# Altium schematic symbol library NSC Audio.SchLib: 691 symbols (part 12 of 18)
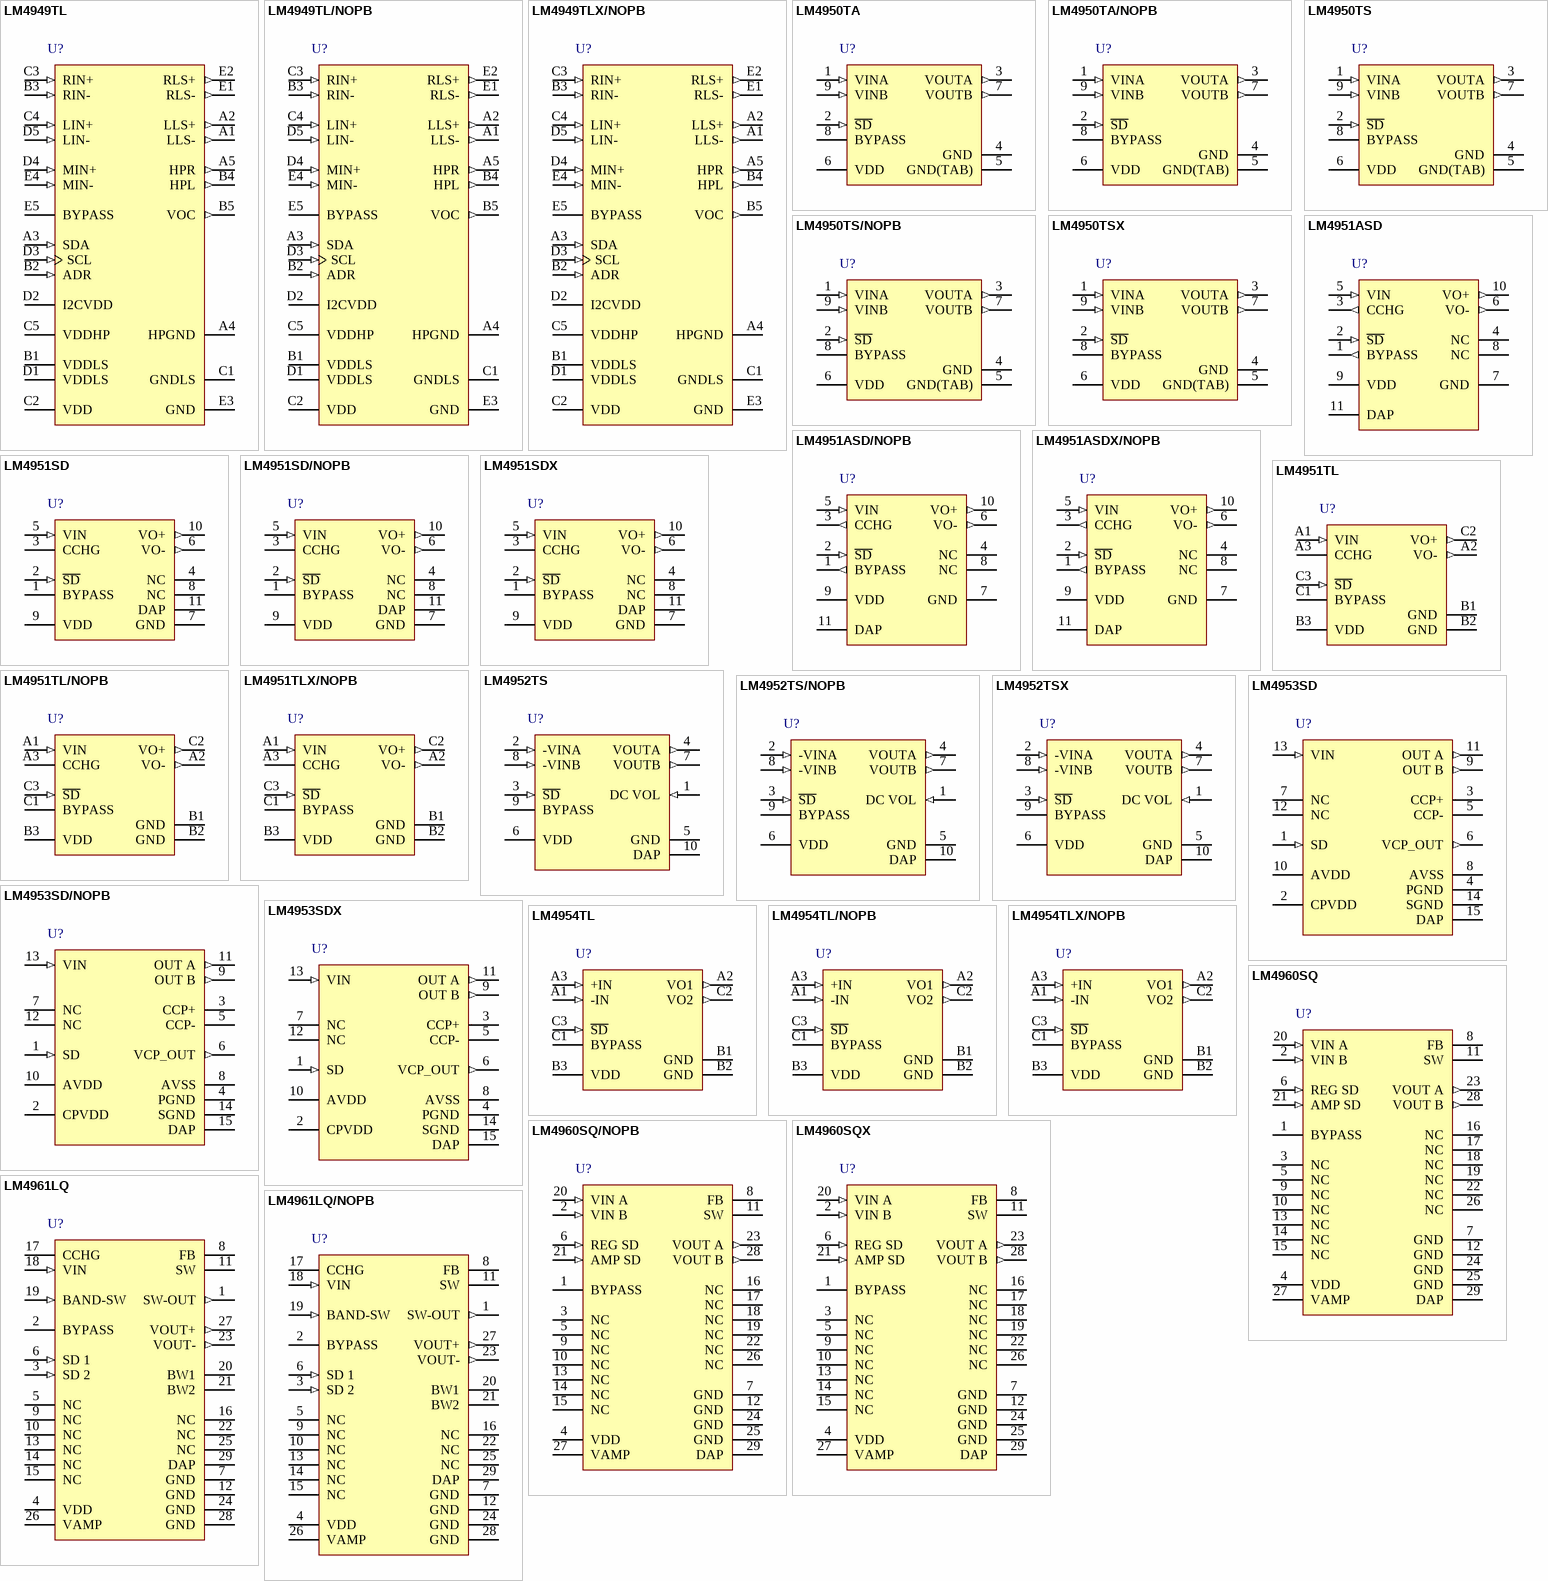
[diagram p38: symbols LM4949TL to LM4961LQ/NOPB]

## LM4952TSX
designator U?
3.1W Stereo-SE Audio Power Amplifier with DC Volume Control, 9-pin TO-263; PartNumber: LM4952TSX; Manufacturer: National Semiconductor; PackageTopMarking: NSUZXYTTE#*LM4952TS; PowerWise: N; CompType: Audio IC; Published: 1-Mar-2010; DatasheetVersion: Aug-2004; PackageVersion: revB, Dec-2004; PackageReference: TS9A; Publisher: Altium Limited; PackageDescription: TO-263, Molded, 9 Lead, Surface Mount; RoHS: N; PinCount: 9; ComponentLink1Description: LM4952 Datasheet; ComponentLink1URL: http://www.national.com/ds/LM/LM4952.pdf; ComponentLink2Description: LM4952 Web Page; ComponentLink2URL: http://www.national.com/pf/LM/LM4952.html; ComponentLink3Description: TS9A Package Page; ComponentLink3URL: http://www.national.com/packaging/folders/ts9a.html
footprint TS9A_N (D2-PAK, 10-Leads, Body 8.7x10.2mm, Pitch 0.97mm, Lead Span 14.1mm, IPC Medium Density)
footprint TS9A_L (D2-PAK, 10-Leads, Body 8.7x10.2mm, Pitch 0.97mm, Lead Span 14.1mm, IPC High Density)
footprint TS9A_M (D2-PAK, 10-Leads, Body 8.7x10.2mm, Pitch 0.97mm, Lead Span 14.1mm, IPC Low Density)
pins: 1 DC VOL (in), 2 -VINA (in), 3 ~{SD} (in), 4 VOUTA (out), 5 GND (power), 6 VDD (power), 7 VOUTB (out), 8 -VINB (in), 9 BYPASS, 10 DAP (power)

## LM4953SD
designator U?
Ground-Referenced, Ultra Low Noise, Ceramic Speaker Driver, 15-pin LLP; PartNumber: LM4953SD; Manufacturer: National Semiconductor; PowerWise: N; CompType: Audio IC; Published: 4-Dec-2008; DatasheetVersion: Feb-2006; PackageVersion: revA, Jun-2003; PackageReference: SDA14A; Publisher: Altium Limited; PackageDescription: LLP, Plastic, Dual, 4 x 3 x 0.8mm Body, 14 Lead, 0.5mm Pitch, No Pullback; Supplier 1: Farnell; Supplier Part Number 1: 1798330; RoHS: N; PinCount: 14; ComponentLink1Description: LM4953 Datasheet; ComponentLink1URL: http://www.national.com/ds/LM/LM4953.pdf; ComponentLink2Description: LM4953 Web Page; ComponentLink2URL: http://www.national.com/pf/LM/LM4953.html; ComponentLink3Description: SDA14A Package Page; ComponentLink3URL: http://www.national.com/packaging/folders/sda14a.html
footprint SDA14A (SON, 14-Leads, Body 4x3mm, Pitch 0.5mm, NSC Recommended)
pins: 1 SD (in), 2 CPVDD (power), 3 CCP+, 4 PGND (power), 5 CCP-, 6 VCP_OUT (out), 7 NC, 8 AVSS (power), 9 OUT B (out), 10 AVDD (power), 11 OUT A (out), 12 NC, 13 VIN (in), 14 SGND (power), 15 DAP (power)

## LM4953SD/NOPB
designator U?
Ground-Referenced, Ultra Low Noise, Ceramic Speaker Driver, 14-pin LLP, Pb-Free; PartNumber: LM4953SD/NOPB; Manufacturer: National Semiconductor; PowerWise: N; CompType: Audio IC; Published: 1-Mar-2010; DatasheetVersion: Feb-2006; PackageVersion: revA, Jun-2003; PackageReference: SDA14A; Publisher: Altium Limited; PackageDescription: LLP, Plastic, Dual, 4 x 3 x 0.8mm Body, 14 Lead, 0.5mm Pitch, No Pullback; Supplier 1: Digi-Key; Supplier Part Number 1: LM4953SD-ND; RoHS: Y; PinCount: 14; ComponentLink1Description: LM4953 Datasheet; ComponentLink1URL: http://www.national.com/ds/LM/LM4953.pdf; ComponentLink2Description: LM4953 Web Page; ComponentLink2URL: http://www.national.com/pf/LM/LM4953.html; ComponentLink3Description: SDA14A Package Page; ComponentLink3URL: http://www.national.com/packaging/folders/sda14a.html
footprint SDA14A (SON, 14-Leads, Body 4x3mm, Pitch 0.5mm, NSC Recommended)
pins: 1 SD (in), 2 CPVDD (power), 3 CCP+, 4 PGND (power), 5 CCP-, 6 VCP_OUT (out), 7 NC, 8 AVSS (power), 9 OUT B (out), 10 AVDD (power), 11 OUT A (out), 12 NC, 13 VIN (in), 14 SGND (power), 15 DAP (power)

## LM4953SDX
designator U?
Ground-Referenced, Ultra Low Noise, Ceramic Speaker Driver, 14-pin LLP; PartNumber: LM4953SDX; Manufacturer: National Semiconductor; PowerWise: N; CompType: Audio IC; Published: 1-Mar-2010; DatasheetVersion: Feb-2006; PackageVersion: revA, Jun-2003; PackageReference: SDA14A; Publisher: Altium Limited; PackageDescription: LLP, Plastic, Dual, 4 x 3 x 0.8mm Body, 14 Lead, 0.5mm Pitch, No Pullback; RoHS: N; PinCount: 14; ComponentLink1Description: LM4953 Datasheet; ComponentLink1URL: http://www.national.com/ds/LM/LM4953.pdf; ComponentLink2Description: LM4953 Web Page; ComponentLink2URL: http://www.national.com/pf/LM/LM4953.html; ComponentLink3Description: SDA14A Package Page; ComponentLink3URL: http://www.national.com/packaging/folders/sda14a.html
footprint SDA14A (SON, 14-Leads, Body 4x3mm, Pitch 0.5mm, NSC Recommended)
pins: 1 SD (in), 2 CPVDD (power), 3 CCP+, 4 PGND (power), 5 CCP-, 6 VCP_OUT (out), 7 NC, 8 AVSS (power), 9 OUT B (out), 10 AVDD (power), 11 OUT A (out), 12 NC, 13 VIN (in), 14 SGND (power), 15 DAP (power)

## LM4954TL
designator U?
High Voltage 3 Watt Audio Power Amplifier, 9-pin Micro SMD; PartNumber: LM4954TL; Manufacturer: National Semiconductor; PackageTopMarking: XVG*I F2; PowerWise: N; CompType: Audio IC; Published: 4-Dec-2008; DatasheetVersion: Jun-2005; PackageVersion: revC, Jan-2004; PackageReference: TLA0911A; Publisher: Altium Limited; PackageDescription: Thin Micro SMD, 9 Bump (Large), 0.5mm Pitch; RoHS: Y; PinCount: 9; Code_JEDEC: MO-211-DD; ComponentLink1Description: LM4954 Datasheet; ComponentLink1URL: http://www.national.com/ds/LM/LM4954.pdf; ComponentLink2Description: LM4954 Web Page; ComponentLink2URL: http://www.national.com/pf/LM/LM4954.html; ComponentLink3Description: TLA0911A Package Page; ComponentLink3URL: http://www.national.com/packaging/folders/tla0911a.html
footprint TLA0911A (Micro SMD, 9-Leads, Body 1.49x1.49mm, Pitch 0.5mm, NSC Recommended)
pins: A1 -IN (in), A2 VO1 (out), A3 +IN (in), B1 GND (power), B2 GND (power), B3 VDD (power), C1 BYPASS, C2 VO2 (out), C3 ~{SD} (in)

## LM4954TL/NOPB
designator U?
High Voltage 3 Watt Audio Power Amplifier, 9-pin Micro SMD, Pb-Free; PartNumber: LM4954TL/NOPB; Manufacturer: National Semiconductor; PackageTopMarking: XVG*I F2; PowerWise: N; CompType: Audio IC; Published: 1-Mar-2010; DatasheetVersion: Jun-2005; PackageVersion: revC, Jan-2004; PackageReference: TLA0911A; Publisher: Altium Limited; PackageDescription: Thin Micro SMD, 9 Bump (Large), 0.5mm Pitch; Supplier 1: Digi-Key; Supplier Part Number 1: LM4954TLTR-ND; Supplier 2: Digi-Key; Supplier Part Number 2: LM4954TLCT-ND; Supplier 3: Digi-Key; Supplier Part Number 3: LM4954TLDKR-ND; RoHS: Y; PinCount: 9; Code_JEDEC: MO-211-DD; ComponentLink1Description: LM4954 Datasheet; ComponentLink1URL: http://www.national.com/ds/LM/LM4954.pdf; ComponentLink2Description: LM4954 Web Page; ComponentLink2URL: http://www.national.com/pf/LM/LM4954.html; ComponentLink3Description: TLA0911A Package Page; ComponentLink3URL: http://www.national.com/packaging/folders/tla0911a.html
footprint TLA0911A (Micro SMD, 9-Leads, Body 1.49x1.49mm, Pitch 0.5mm, NSC Recommended)
pins: A1 -IN (in), A2 VO1 (out), A3 +IN (in), B1 GND (power), B2 GND (power), B3 VDD (power), C1 BYPASS, C2 VO2 (out), C3 ~{SD} (in)

## LM4954TLX/NOPB
designator U?
High Voltage 3 Watt Audio Power Amplifier, 9-pin Micro SMD, Pb-Free; PartNumber: LM4954TLX/NOPB; Manufacturer: National Semiconductor; PackageTopMarking: XVG*I F2; PowerWise: N; CompType: Audio IC; Published: 1-Mar-2010; DatasheetVersion: Jun-2005; PackageVersion: revC, Jan-2004; PackageReference: TLA0911A; Publisher: Altium Limited; PackageDescription: Thin Micro SMD, 9 Bump (Large), 0.5mm Pitch; Supplier 1: Digi-Key; Supplier Part Number 1: LM4954TLX-ND; RoHS: Y; PinCount: 9; Code_JEDEC: MO-211-DD; ComponentLink1Description: LM4954 Datasheet; ComponentLink1URL: http://www.national.com/ds/LM/LM4954.pdf; ComponentLink2Description: LM4954 Web Page; ComponentLink2URL: http://www.national.com/pf/LM/LM4954.html; ComponentLink3Description: TLA0911A Package Page; ComponentLink3URL: http://www.national.com/packaging/folders/tla0911a.html
footprint TLA0911A (Micro SMD, 9-Leads, Body 1.49x1.49mm, Pitch 0.5mm, NSC Recommended)
pins: A1 -IN (in), A2 VO1 (out), A3 +IN (in), B1 GND (power), B2 GND (power), B3 VDD (power), C1 BYPASS, C2 VO2 (out), C3 ~{SD} (in)

## LM4960SQ
designator U?
Piezoelectric Speaker Driver, 28-pin LLP; PartNumber: LM4960SQ; Manufacturer: National Semiconductor; PackageTopMarking: NS*UZXYTT*L4960SQ; PowerWise: N; CompType: Audio IC; Published: 4-Dec-2008; DatasheetVersion: Apr-2005; PackageVersion: revB, Aug-2003; PackageReference: SQA28A; Publisher: Altium Limited; PackageDescription: LLP, Plastic, Quad, 5 x 5 x 0.8mm Body, 28 Lead, 0.5mm Pitch, No Pullback; Supplier 1: Farnell; Supplier Part Number 1: 1312787; RoHS: N; PinCount: 28; Code_JEDEC: MO-220-WHHD-3; ComponentLink1Description: LM4960 Datasheet; ComponentLink1URL: http://www.national.com/ds/LM/LM4960.pdf; ComponentLink2Description: LM4960 Web Page; ComponentLink2URL: http://www.national.com/pf/LM/LM4960.html; ComponentLink3Description: SQA28A Package Page; ComponentLink3URL: http://www.national.com/packaging/folders/sqa28a.html
footprint SQA28A (QFN, 28-Leads, Body 5x5mm, Pitch 0.5mm, NSC Recommended)
pins: 1 BYPASS, 2 VIN B (in), 3 NC, 4 VDD (power), 5 NC, 6 REG SD (in), 7 GND (power), 8 FB, 9 NC, 10 NC, 11 SW, 12 GND (power), 13 NC, 14 NC, 15 NC, 16 NC, 17 NC, 18 NC, 19 NC, 20 VIN A (in), 21 AMP SD (in), 22 NC, 23 VOUT A (out), 24 GND (power), 25 GND (power), 26 NC, 27 VAMP (power), 28 VOUT B (out), 29 DAP (power)

## LM4960SQ/NOPB
designator U?
Piezoelectric Speaker Driver, 28-pin LLP, Pb-Free; PartNumber: LM4960SQ/NOPB; Manufacturer: National Semiconductor; PackageTopMarking: NS*UZXYTT*L4960SQ; PowerWise: N; CompType: Audio IC; Published: 1-Mar-2010; DatasheetVersion: Apr-2005; PackageVersion: revB, Aug-2003; PackageReference: SQA28A; Publisher: Altium Limited; PackageDescription: LLP, Plastic, Quad, 5 x 5 x 0.8mm Body, 28 Lead, 0.5mm Pitch, No Pullback; Supplier 1: Digi-Key; Supplier Part Number 1: LM4960SQTR-ND; Supplier 2: Digi-Key; Supplier Part Number 2: LM4960SQCT-ND; Supplier 3: Digi-Key; Supplier Part Number 3: LM4960SQDKR-ND; RoHS: Y; PinCount: 28; Code_JEDEC: MO-220-WHHD-3; ComponentLink1Description: LM4960 Datasheet; ComponentLink1URL: http://www.national.com/ds/LM/LM4960.pdf; ComponentLink2Description: LM4960 Web Page; ComponentLink2URL: http://www.national.com/pf/LM/LM4960.html; ComponentLink3Description: SQA28A Package Page; ComponentLink3URL: http://www.national.com/packaging/folders/sqa28a.html
footprint SQA28A (QFN, 28-Leads, Body 5x5mm, Pitch 0.5mm, NSC Recommended)
pins: 1 BYPASS, 2 VIN B (in), 3 NC, 4 VDD (power), 5 NC, 6 REG SD (in), 7 GND (power), 8 FB, 9 NC, 10 NC, 11 SW, 12 GND (power), 13 NC, 14 NC, 15 NC, 16 NC, 17 NC, 18 NC, 19 NC, 20 VIN A (in), 21 AMP SD (in), 22 NC, 23 VOUT A (out), 24 GND (power), 25 GND (power), 26 NC, 27 VAMP (power), 28 VOUT B (out), 29 DAP (power)

## LM4960SQX
designator U?
Piezoelectric Speaker Driver, 28-pin LLP; PartNumber: LM4960SQX; Manufacturer: National Semiconductor; PackageTopMarking: NS*UZXYTT*L4960SQ; PowerWise: N; CompType: Audio IC; Published: 1-Mar-2010; DatasheetVersion: Apr-2005; PackageVersion: revB, Aug-2003; PackageReference: SQA28A; Publisher: Altium Limited; PackageDescription: LLP, Plastic, Quad, 5 x 5 x 0.8mm Body, 28 Lead, 0.5mm Pitch, No Pullback; RoHS: N; PinCount: 28; Code_JEDEC: MO-220-WHHD-3; ComponentLink1Description: LM4960 Datasheet; ComponentLink1URL: http://www.national.com/ds/LM/LM4960.pdf; ComponentLink2Description: LM4960 Web Page; ComponentLink2URL: http://www.national.com/pf/LM/LM4960.html; ComponentLink3Description: SQA28A Package Page; ComponentLink3URL: http://www.national.com/packaging/folders/sqa28a.html
footprint SQA28A (QFN, 28-Leads, Body 5x5mm, Pitch 0.5mm, NSC Recommended)
pins: 1 BYPASS, 2 VIN B (in), 3 NC, 4 VDD (power), 5 NC, 6 REG SD (in), 7 GND (power), 8 FB, 9 NC, 10 NC, 11 SW, 12 GND (power), 13 NC, 14 NC, 15 NC, 16 NC, 17 NC, 18 NC, 19 NC, 20 VIN A (in), 21 AMP SD (in), 22 NC, 23 VOUT A (out), 24 GND (power), 25 GND (power), 26 NC, 27 VAMP (power), 28 VOUT B (out), 29 DAP (power)

## LM4961LQ
designator U?
Ceramic Speaker Driver, 29-pin LLP; PartNumber: LM4961LQ; Manufacturer: National Semiconductor; PackageTopMarking: NS*UZXYTT*L4961LQ; PowerWise: N; CompType: Audio IC; Published: 4-Dec-2008; DatasheetVersion: Dec-2006; PackageVersion: revB, Jul-2001; PackageReference: LQA28A; Publisher: Altium Limited; PackageDescription: LLP, Plastic, Quad, 5 x 5 x 0.75mm Body, 28 Lead, 0.5mm Pitch; Supplier 1: Farnell; Supplier Part Number 1: 1312788; RoHS: N; PinCount: 28; Code_JEDEC: MO-220-WHHD-1; ComponentLink1Description: LM4961 Datasheet; ComponentLink1URL: http://www.national.com/ds/LM/LM4961.pdf; ComponentLink2Description: LM4961 Web Page; ComponentLink2URL: http://www.national.com/pf/LM/LM4961.html; ComponentLink3Description: LQA28A Package Page; ComponentLink3URL: http://www.national.com/packaging/folders/lqa28a.html
footprint LQA28A (PQFN, 28-Leads, Body 5x5mm, Pitch 0.5mm, NSC Recommended)
pins: 1 SW-OUT (out), 2 BYPASS, 3 SD 2 (in), 4 VDD (power), 5 NC, 6 SD 1 (in), 7 GND (power), 8 FB, 9 NC, 10 NC, 11 SW, 12 GND (power), 13 NC, 14 NC, 15 NC, 16 NC, 17 CCHG, 18 VIN (in), 19 BAND-SW (in), 20 BW1, 21 BW2, 22 NC, 23 VOUT- (out), 24 GND (power), 25 NC, 26 VAMP (power), 27 VOUT+ (out), 28 GND (power), 29 DAP (power)

## LM4961LQ/NOPB
designator U?
Ceramic Speaker Driver, 28-pin LLP, Pb-Free; PartNumber: LM4961LQ/NOPB; Manufacturer: National Semiconductor; PackageTopMarking: NS*UZXYTT*L4961LQ; PowerWise: N; CompType: Audio IC; Published: 1-Mar-2010; DatasheetVersion: Dec-2006; PackageVersion: revB, Jul-2001; PackageReference: LQA28A; Publisher: Altium Limited; PackageDescription: LLP, Plastic, Quad, 5 x 5 x 0.75mm Body, 28 Lead, 0.5mm Pitch; Supplier 1: Digi-Key; Supplier Part Number 1: LM4961LQTR-ND; Supplier 2: Digi-Key; Supplier Part Number 2: LM4961LQCT-ND; Supplier 3: Digi-Key; Supplier Part Number 3: LM4961LQDKR-ND; RoHS: Y; PinCount: 28; Code_JEDEC: MO-220-WHHD-1; ComponentLink1Description: LM4961 Datasheet; ComponentLink1URL: http://www.national.com/ds/LM/LM4961.pdf; ComponentLink2Description: LM4961 Web Page; ComponentLink2URL: http://www.national.com/pf/LM/LM4961.html; ComponentLink3Description: LQA28A Package Page; ComponentLink3URL: http://www.national.com/packaging/folders/lqa28a.html
footprint LQA28A (PQFN, 28-Leads, Body 5x5mm, Pitch 0.5mm, NSC Recommended)
pins: 1 SW-OUT (out), 2 BYPASS, 3 SD 2 (in), 4 VDD (power), 5 NC, 6 SD 1 (in), 7 GND (power), 8 FB, 9 NC, 10 NC, 11 SW, 12 GND (power), 13 NC, 14 NC, 15 NC, 16 NC, 17 CCHG, 18 VIN (in), 19 BAND-SW (in), 20 BW1, 21 BW2, 22 NC, 23 VOUT- (out), 24 GND (power), 25 NC, 26 VAMP (power), 27 VOUT+ (out), 28 GND (power), 29 DAP (power)

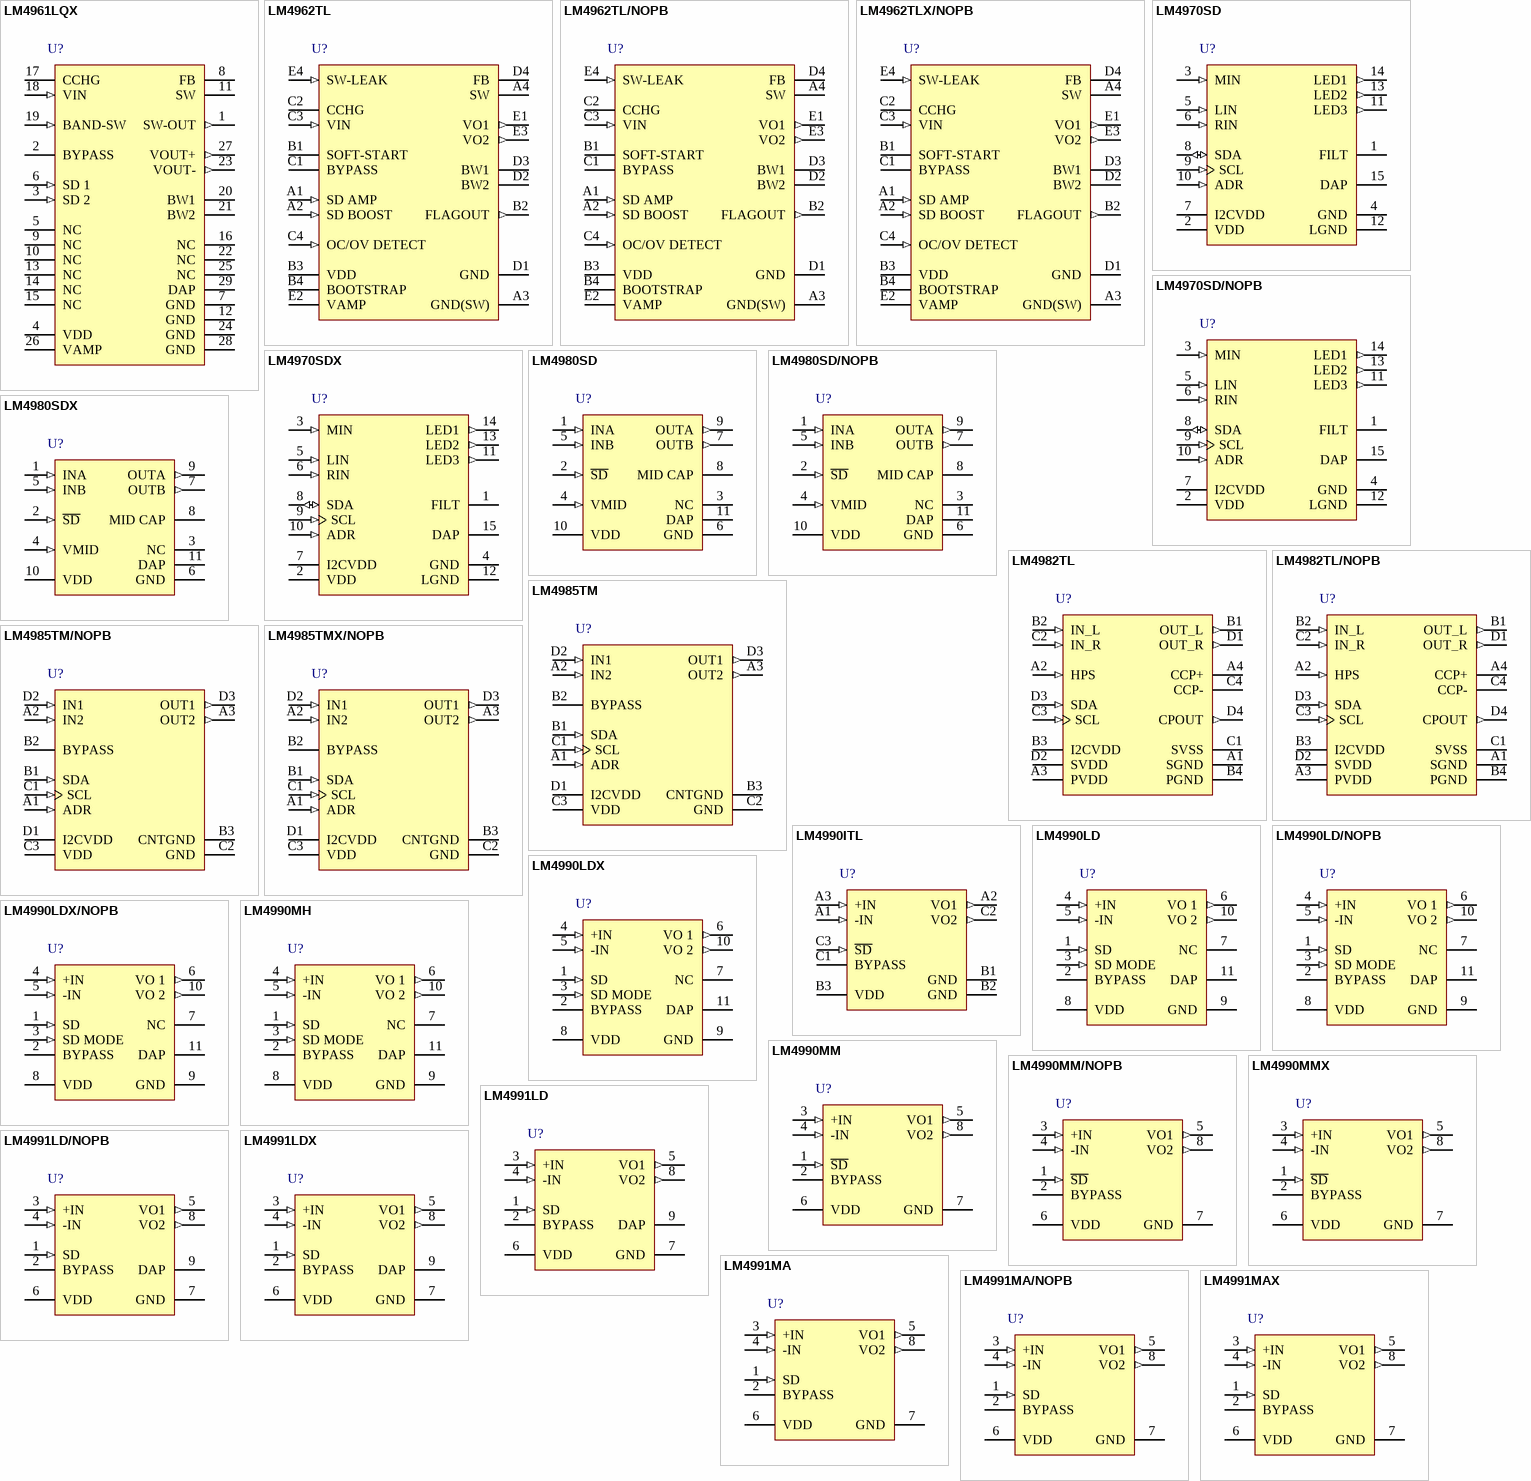
[diagram p17: symbols LM4961LQX to LM4991MAX]

## LM4961LQX
designator U?
Ceramic Speaker Driver, 28-pin LLP; PartNumber: LM4961LQX; Manufacturer: National Semiconductor; PackageTopMarking: NS*UZXYTT*L4961LQ; PowerWise: N; CompType: Audio IC; Published: 1-Mar-2010; DatasheetVersion: Dec-2006; PackageVersion: revB, Jul-2001; PackageReference: LQA28A; Publisher: Altium Limited; PackageDescription: LLP, Plastic, Quad, 5 x 5 x 0.75mm Body, 28 Lead, 0.5mm Pitch; RoHS: N; PinCount: 28; Code_JEDEC: MO-220-WHHD-1; ComponentLink1Description: LM4961 Datasheet; ComponentLink1URL: http://www.national.com/ds/LM/LM4961.pdf; ComponentLink2Description: LM4961 Web Page; ComponentLink2URL: http://www.national.com/pf/LM/LM4961.html; ComponentLink3Description: LQA28A Package Page; ComponentLink3URL: http://www.national.com/packaging/folders/lqa28a.html
footprint LQA28A (PQFN, 28-Leads, Body 5x5mm, Pitch 0.5mm, NSC Recommended)
pins: 1 SW-OUT (out), 2 BYPASS, 3 SD 2 (in), 4 VDD (power), 5 NC, 6 SD 1 (in), 7 GND (power), 8 FB, 9 NC, 10 NC, 11 SW, 12 GND (power), 13 NC, 14 NC, 15 NC, 16 NC, 17 CCHG, 18 VIN (in), 19 BAND-SW (in), 20 BW1, 21 BW2, 22 NC, 23 VOUT- (out), 24 GND (power), 25 NC, 26 VAMP (power), 27 VOUT+ (out), 28 GND (power), 29 DAP (power)

## LM4962TL
designator U?
Ceramic Speaker Driver, 20-pin Micro SMD; PartNumber: LM4962TL; Manufacturer: National Semiconductor; PackageTopMarking: XYTT*I GF7; PowerWise: N; CompType: Audio IC; Published: 4-Dec-2008; DatasheetVersion: Mar-2006; PackageVersion: revC, Jan-2004; PackageReference: TLA2011A; Publisher: Altium Limited; PackageDescription: Thin Micro SMD, 20 Bump (Large), 0.5mm Pitch; RoHS: Y; PinCount: 20; Code_JEDEC: MO-211-DG; ComponentLink1Description: LM4962 Datasheet; ComponentLink1URL: http://www.national.com/ds/LM/LM4962.pdf; ComponentLink2Description: LM4962 Web Page; ComponentLink2URL: http://www.national.com/pf/LM/LM4962.html; ComponentLink3Description: TLA2011A Package Page; ComponentLink3URL: http://www.national.com/packaging/folders/tla2011a.html
footprint TLA2011A (Micro SMD, 20-Leads, Body 2.47x1.97mm, Pitch 0.5mm, NSC Recommended)
pins: A1 SD AMP (in), A2 SD BOOST (in), A3 GND(SW) (power), A4 SW, B1 SOFT-START, B2 FLAGOUT (out), B3 VDD (power), B4 BOOTSTRAP (power), C1 BYPASS, C2 CCHG, C3 VIN (in), C4 OC/OV DETECT (in), D1 GND (power), D2 BW2, D3 BW1, D4 FB, E1 VO1 (out), E2 VAMP (power), E3 VO2 (out), E4 SW-LEAK (in)

## LM4962TL/NOPB
designator U?
Ceramic Speaker Driver, 20-pin Micro SMD, Pb-Free; PartNumber: LM4962TL/NOPB; Manufacturer: National Semiconductor; PackageTopMarking: XYTT*I GF7; PowerWise: N; CompType: Audio IC; Published: 1-Mar-2010; DatasheetVersion: Mar-2006; PackageVersion: revC, Jan-2004; PackageReference: TLA2011A; Publisher: Altium Limited; PackageDescription: Thin Micro SMD, 20 Bump (Large), 0.5mm Pitch; Supplier 1: Digi-Key; Supplier Part Number 1: LM4962TLTR-ND; Supplier 2: Digi-Key; Supplier Part Number 2: LM4962TLCT-ND; Supplier 3: Digi-Key; Supplier Part Number 3: LM4962TLDKR-ND; RoHS: Y; PinCount: 20; Code_JEDEC: MO-211-DG; ComponentLink1Description: LM4962 Datasheet; ComponentLink1URL: http://www.national.com/ds/LM/LM4962.pdf; ComponentLink2Description: LM4962 Web Page; ComponentLink2URL: http://www.national.com/pf/LM/LM4962.html; ComponentLink3Description: TLA2011A Package Page; ComponentLink3URL: http://www.national.com/packaging/folders/tla2011a.html
footprint TLA2011A (Micro SMD, 20-Leads, Body 2.47x1.97mm, Pitch 0.5mm, NSC Recommended)
pins: A1 SD AMP (in), A2 SD BOOST (in), A3 GND(SW) (power), A4 SW, B1 SOFT-START, B2 FLAGOUT (out), B3 VDD (power), B4 BOOTSTRAP (power), C1 BYPASS, C2 CCHG, C3 VIN (in), C4 OC/OV DETECT (in), D1 GND (power), D2 BW2, D3 BW1, D4 FB, E1 VO1 (out), E2 VAMP (power), E3 VO2 (out), E4 SW-LEAK (in)

## LM4962TLX/NOPB
designator U?
Ceramic Speaker Driver, 20-pin Micro SMD, Pb-Free; PartNumber: LM4962TLX/NOPB; Manufacturer: National Semiconductor; PackageTopMarking: XYTT*I GF7; PowerWise: N; CompType: Audio IC; Published: 1-Mar-2010; DatasheetVersion: Mar-2006; PackageVersion: revC, Jan-2004; PackageReference: TLA2011A; Publisher: Altium Limited; PackageDescription: Thin Micro SMD, 20 Bump (Large), 0.5mm Pitch; Supplier 1: Digi-Key; Supplier Part Number 1: LM4962TLX-ND; RoHS: Y; PinCount: 20; Code_JEDEC: MO-211-DG; ComponentLink1Description: LM4962 Datasheet; ComponentLink1URL: http://www.national.com/ds/LM/LM4962.pdf; ComponentLink2Description: LM4962 Web Page; ComponentLink2URL: http://www.national.com/pf/LM/LM4962.html; ComponentLink3Description: TLA2011A Package Page; ComponentLink3URL: http://www.national.com/packaging/folders/tla2011a.html
footprint TLA2011A (Micro SMD, 20-Leads, Body 2.47x1.97mm, Pitch 0.5mm, NSC Recommended)
pins: A1 SD AMP (in), A2 SD BOOST (in), A3 GND(SW) (power), A4 SW, B1 SOFT-START, B2 FLAGOUT (out), B3 VDD (power), B4 BOOTSTRAP (power), C1 BYPASS, C2 CCHG, C3 VIN (in), C4 OC/OV DETECT (in), D1 GND (power), D2 BW2, D3 BW1, D4 FB, E1 VO1 (out), E2 VAMP (power), E3 VO2 (out), E4 SW-LEAK (in)

## LM4970SD
designator U?
Audio Synchronized Color LED Driver, 15-pin LLP; PartNumber: LM4970SD; Manufacturer: National Semiconductor; PowerWise: Y; CompType: Audio IC; Published: 4-Dec-2008; DatasheetVersion: Apr-2008; PackageVersion: revA, Jun-2003; PackageReference: SDA14A; Publisher: Altium Limited; PackageDescription: LLP, Plastic, Dual, 4 x 3 x 0.8mm Body, 14 Lead, 0.5mm Pitch, No Pullback; Supplier 1: Digi-Key; Supplier Part Number 1: LM4970SDTR-ND; Supplier 2: Digi-Key; Supplier Part Number 2: LM4970SDCT-ND; Supplier 3: Digi-Key; Supplier Part Number 3: LM4970SDDKR-ND; RoHS: N; PinCount: 14; ComponentLink1Description: LM4970 Datasheet; ComponentLink1URL: http://www.national.com/ds/LM/LM4970.pdf; ComponentLink2Description: LM4970 Web Page; ComponentLink2URL: http://www.national.com/pf/LM/LM4970.html; ComponentLink3Description: SDA14A Package Page; ComponentLink3URL: http://www.national.com/packaging/folders/sda14a.html
footprint SDA14A (SON, 14-Leads, Body 4x3mm, Pitch 0.5mm, NSC Recommended)
pins: 1 FILT, 2 VDD (power), 3 MIN (in), 4 GND (power), 5 LIN (in), 6 RIN (in), 7 I2CVDD (power), 8 SDA (io), 9 SCL (in), 10 ADR (in), 11 LED3 (out), 12 LGND (power), 13 LED2 (out), 14 LED1 (out), 15 DAP (power)

## LM4970SD/NOPB
designator U?
Audio Synchronized Color LED Driver, 14-pin LLP, Pb-Free; PartNumber: LM4970SD/NOPB; Manufacturer: National Semiconductor; PowerWise: Y; CompType: Audio IC; Published: 1-Mar-2010; DatasheetVersion: Apr-2008; PackageVersion: revA, Jun-2003; PackageReference: SDA14A; Publisher: Altium Limited; PackageDescription: LLP, Plastic, Dual, 4 x 3 x 0.8mm Body, 14 Lead, 0.5mm Pitch, No Pullback; Supplier 1: Farnell; Supplier Part Number 1: 1675281; RoHS: Y; PinCount: 14; ComponentLink1Description: LM4970 Datasheet; ComponentLink1URL: http://www.national.com/ds/LM/LM4970.pdf; ComponentLink2Description: LM4970 Web Page; ComponentLink2URL: http://www.national.com/pf/LM/LM4970.html; ComponentLink3Description: SDA14A Package Page; ComponentLink3URL: http://www.national.com/packaging/folders/sda14a.html
footprint SDA14A (SON, 14-Leads, Body 4x3mm, Pitch 0.5mm, NSC Recommended)
pins: 1 FILT, 2 VDD (power), 3 MIN (in), 4 GND (power), 5 LIN (in), 6 RIN (in), 7 I2CVDD (power), 8 SDA (io), 9 SCL (in), 10 ADR (in), 11 LED3 (out), 12 LGND (power), 13 LED2 (out), 14 LED1 (out), 15 DAP (power)

## LM4970SDX
designator U?
Audio Synchronized Color LED Driver, 14-pin LLP; PartNumber: LM4970SDX; Manufacturer: National Semiconductor; PowerWise: Y; CompType: Audio IC; Published: 1-Mar-2010; DatasheetVersion: Apr-2008; PackageVersion: revA, Jun-2003; PackageReference: SDA14A; Publisher: Altium Limited; PackageDescription: LLP, Plastic, Dual, 4 x 3 x 0.8mm Body, 14 Lead, 0.5mm Pitch, No Pullback; RoHS: N; PinCount: 14; ComponentLink1Description: LM4970 Datasheet; ComponentLink1URL: http://www.national.com/ds/LM/LM4970.pdf; ComponentLink2Description: LM4970 Web Page; ComponentLink2URL: http://www.national.com/pf/LM/LM4970.html; ComponentLink3Description: SDA14A Package Page; ComponentLink3URL: http://www.national.com/packaging/folders/sda14a.html
footprint SDA14A (SON, 14-Leads, Body 4x3mm, Pitch 0.5mm, NSC Recommended)
pins: 1 FILT, 2 VDD (power), 3 MIN (in), 4 GND (power), 5 LIN (in), 6 RIN (in), 7 I2CVDD (power), 8 SDA (io), 9 SCL (in), 10 ADR (in), 11 LED3 (out), 12 LGND (power), 13 LED2 (out), 14 LED1 (out), 15 DAP (power)

## LM4980SD
designator U?
2 Cell Battery, 1mA, 42mW Per Channel High Fidelity Stereo Headphone Audio Amplifier for MP3 players, 11-pin LLP; PartNumber: LM4980SD; Manufacturer: National Semiconductor; PackageTopMarking: ZXYTT*L4980; PowerWise: Y; CompType: Audio IC; Published: 4-Dec-2008; DatasheetVersion: Jul-2005; PackageVersion: revA, Oct-2003; PackageReference: SDA10A; Publisher: Altium Limited; PackageDescription: LLP, Plastic, Dual, 3 x 3 x 0.8mm Body, 10 Lead, 0.5mm Pitch, No Pullback; Supplier 1: Farnell; Supplier Part Number 1: 1312588; RoHS: N; PinCount: 10; ComponentLink1Description: LM4980 Datasheet; ComponentLink1URL: http://www.national.com/ds/LM/LM4980.pdf; ComponentLink2Description: LM4980 Web Page; ComponentLink2URL: http://www.national.com/pf/LM/LM4980.html; ComponentLink3Description: SDA10A Package Page; ComponentLink3URL: http://www.national.com/packaging/folders/sda10a.html
footprint SDA10A (SON, 10-Leads, Body 3x3 mm, Pitch 0.5mm, NSC Recommended)
pins: 1 INA (in), 2 ~{SD} (in), 3 NC, 4 VMID (in), 5 INB (in), 6 GND (power), 7 OUTB (out), 8 MID CAP, 9 OUTA (out), 10 VDD (power), 11 DAP (power)

## LM4980SD/NOPB
designator U?
2 Cell Battery, 1mA, 42mW Per Channel High Fidelity Stereo Headphone Audio Amplifier for MP3 players, 10-pin LLP, Pb-Free; PartNumber: LM4980SD/NOPB; Manufacturer: National Semiconductor; PackageTopMarking: ZXYTT*L4980; PowerWise: Y; CompType: Audio IC; Published: 1-Mar-2010; DatasheetVersion: Jul-2005; PackageVersion: revA, Oct-2003; PackageReference: SDA10A; Publisher: Altium Limited; PackageDescription: LLP, Plastic, Dual, 3 x 3 x 0.8mm Body, 10 Lead, 0.5mm Pitch, No Pullback; Supplier 1: Digi-Key; Supplier Part Number 1: LM4980SDTR-ND; Supplier 2: Digi-Key; Supplier Part Number 2: LM4980SDCT-ND; Supplier 3: Digi-Key; Supplier Part Number 3: LM4980SDDKR-ND; RoHS: Y; PinCount: 10; ComponentLink1Description: LM4980 Datasheet; ComponentLink1URL: http://www.national.com/ds/LM/LM4980.pdf; ComponentLink2Description: LM4980 Web Page; ComponentLink2URL: http://www.national.com/pf/LM/LM4980.html; ComponentLink3Description: SDA10A Package Page; ComponentLink3URL: http://www.national.com/packaging/folders/sda10a.html
footprint SDA10A (SON, 10-Leads, Body 3x3 mm, Pitch 0.5mm, NSC Recommended)
pins: 1 INA (in), 2 ~{SD} (in), 3 NC, 4 VMID (in), 5 INB (in), 6 GND (power), 7 OUTB (out), 8 MID CAP, 9 OUTA (out), 10 VDD (power), 11 DAP (power)

## LM4980SDX
designator U?
2 Cell Battery, 1mA, 42mW Per Channel High Fidelity Stereo Headphone Audio Amplifier for MP3 players, 10-pin LLP; PartNumber: LM4980SDX; Manufacturer: National Semiconductor; PackageTopMarking: ZXYTT*L4980; PowerWise: Y; CompType: Audio IC; Published: 1-Mar-2010; DatasheetVersion: Jul-2005; PackageVersion: revA, Oct-2003; PackageReference: SDA10A; Publisher: Altium Limited; PackageDescription: LLP, Plastic, Dual, 3 x 3 x 0.8mm Body, 10 Lead, 0.5mm Pitch, No Pullback; RoHS: N; PinCount: 10; ComponentLink1Description: LM4980 Datasheet; ComponentLink1URL: http://www.national.com/ds/LM/LM4980.pdf; ComponentLink2Description: LM4980 Web Page; ComponentLink2URL: http://www.national.com/pf/LM/LM4980.html; ComponentLink3Description: SDA10A Package Page; ComponentLink3URL: http://www.national.com/packaging/folders/sda10a.html
footprint SDA10A (SON, 10-Leads, Body 3x3 mm, Pitch 0.5mm, NSC Recommended)
pins: 1 INA (in), 2 ~{SD} (in), 3 NC, 4 VMID (in), 5 INB (in), 6 GND (power), 7 OUTB (out), 8 MID CAP, 9 OUTA (out), 10 VDD (power), 11 DAP (power)

## LM4982TL
designator U?
Ground-Referenced, Ultra Low Noise, 80mW Stereo Headphone Amplifier with IntelliSense and I2C Volume Control, 16-pin Micro SMD; PartNumber: LM4982TL; Manufacturer: National Semiconductor; PackageTopMarking: XYTT*I GG3; PowerWise: N; CompType: Audio IC; Published: 4-Dec-2008; DatasheetVersion: Jul-2006; PackageVersion: revC, Jan-2004; PackageReference: TLA1611A; Publisher: Altium Limited; PackageDescription: Thin Micro SMD, 16 Bump (Large), 0.5mm Pitch; RoHS: Y; PinCount: 16; Code_JEDEC: MO-211-DF; ComponentLink1Description: LM4982 Datasheet; ComponentLink1URL: http://www.national.com/ds/LM/LM4982.pdf; ComponentLink2Description: LM4982 Web Page; ComponentLink2URL: http://www.national.com/pf/LM/LM4982.html; ComponentLink3Description: TLA1611A Package Page; ComponentLink3URL: http://www.national.com/packaging/folders/tla1611a.html
footprint TLA1611A (Micro SMD, 16-Leads, Body 1.97x1.97mm, Pitch 0.5mm, NSC Recommended)
pins: A1 SGND (power), A2 HPS (in), A3 PVDD (power), A4 CCP+, B1 OUT_L (out), B2 IN_L (in), B3 I2CVDD (power), B4 PGND (power), C1 SVSS (power), C2 IN_R (in), C3 SCL (in), C4 CCP-, D1 OUT_R (out), D2 SVDD (power), D3 SDA (in), D4 CPOUT (out)

## LM4982TL/NOPB
designator U?
Ground-Referenced, Ultra Low Noise, 80mW Stereo Headphone Amplifier with IntelliSense and I2C Volume Control, 16-pin Micro SMD, Pb-Free; PartNumber: LM4982TL/NOPB; Manufacturer: National Semiconductor; PackageTopMarking: XYTT*I GG3; PowerWise: N; CompType: Audio IC; Published: 1-Mar-2010; DatasheetVersion: Jul-2006; PackageVersion: revC, Jan-2004; PackageReference: TLA1611A; Publisher: Altium Limited; PackageDescription: Thin Micro SMD, 16 Bump (Large), 0.5mm Pitch; Supplier 1: Digi-Key; Supplier Part Number 1: LM4982TLTR-ND; Supplier 2: Digi-Key; Supplier Part Number 2: LM4982TLCT-ND; Supplier 3: Digi-Key; Supplier Part Number 3: LM4982TLDKR-ND; RoHS: Y; PinCount: 16; Code_JEDEC: MO-211-DF; ComponentLink1Description: LM4982 Datasheet; ComponentLink1URL: http://www.national.com/ds/LM/LM4982.pdf; ComponentLink2Description: LM4982 Web Page; ComponentLink2URL: http://www.national.com/pf/LM/LM4982.html; ComponentLink3Description: TLA1611A Package Page; ComponentLink3URL: http://www.national.com/packaging/folders/tla1611a.html
footprint TLA1611A (Micro SMD, 16-Leads, Body 1.97x1.97mm, Pitch 0.5mm, NSC Recommended)
pins: A1 SGND (power), A2 HPS (in), A3 PVDD (power), A4 CCP+, B1 OUT_L (out), B2 IN_L (in), B3 I2CVDD (power), B4 PGND (power), C1 SVSS (power), C2 IN_R (in), C3 SCL (in), C4 CCP-, D1 OUT_R (out), D2 SVDD (power), D3 SDA (in), D4 CPOUT (out)

## LM4985TM
designator U?
Stereo 135mW Low Noise Headphone Amplifier with Selectable Capacitive Coupled or OCL Output and Digitally Controlled (I2C) Volume Control, 12-pin Micro SMD; PartNumber: LM4985TM; Manufacturer: National Semiconductor; PackageTopMarking: XVG*I H2; PowerWise: N; CompType: Audio IC; Published: 4-Dec-2008; DatasheetVersion: May-2006; PackageVersion: revA, 2008; PackageReference: TMD12AAA; Publisher: Altium Limited; PackageDescription: Thin Micro SMD, 12 Bump, 0.4mm Pitch; RoHS: Y; PinCount: 12; ComponentLink1Description: LM4985 Datasheet; ComponentLink1URL: http://www.national.com/ds/LM/LM4985.pdf; ComponentLink2Description: LM4985 Web Page; ComponentLink2URL: http://www.national.com/pf/LM/LM4985.html
footprint TMD12AAA (Micro SMD, 12-Leads, Body 1.62x1.22mm, Pitch 0.4mm, NSC Recommended)
pins: A1 ADR (in), A2 IN2 (in), A3 OUT2 (out), B1 SDA (in), B2 BYPASS, B3 CNTGND (power), C1 SCL (in), C2 GND (power), C3 VDD (power), D1 I2CVDD (power), D2 IN1 (in), D3 OUT1 (out)

## LM4985TM/NOPB
designator U?
Stereo 135mW Low Noise Headphone Amplifier with Selectable Capacitive Coupled or OCL Output and Digitally Controlled (I2C) Volume Control, 12-pin Micro SMD, Pb-Free; PartNumber: LM4985TM/NOPB; Manufacturer: National Semiconductor; PackageTopMarking: XVG*I H2; PowerWise: N; CompType: Audio IC; Published: 1-Mar-2010; DatasheetVersion: May-2006; PackageVersion: revA, 2008; PackageReference: TMD12AAA; Publisher: Altium Limited; PackageDescription: Thin Micro SMD, 12 Bump, 0.4mm Pitch; Supplier 1: Digi-Key; Supplier Part Number 1: LM4985TMTR-ND; Supplier 2: Digi-Key; Supplier Part Number 2: LM4985TMCT-ND; Supplier 3: Digi-Key; Supplier Part Number 3: LM4985TMDKR-ND; RoHS: Y; PinCount: 12; ComponentLink1Description: LM4985 Datasheet; ComponentLink1URL: http://www.national.com/ds/LM/LM4985.pdf; ComponentLink2Description: LM4985 Web Page; ComponentLink2URL: http://www.national.com/pf/LM/LM4985.html; ComponentLink3Description: TMD12AAA Package Page; ComponentLink3URL: http://www.national.com/packaging/folders/tmd12aaa.html
footprint TMD12AAA (Micro SMD, 12-Leads, Body 1.62x1.22mm, Pitch 0.4mm, NSC Recommended)
pins: A1 ADR (in), A2 IN2 (in), A3 OUT2 (out), B1 SDA (in), B2 BYPASS, B3 CNTGND (power), C1 SCL (in), C2 GND (power), C3 VDD (power), D1 I2CVDD (power), D2 IN1 (in), D3 OUT1 (out)

## LM4985TMX/NOPB
designator U?
Stereo 135mW Low Noise Headphone Amplifier with Selectable Capacitive Coupled or OCL Output and Digitally Controlled (I2C) Volume Control, 12-pin Micro SMD, Pb-Free; PartNumber: LM4985TMX/NOPB; Manufacturer: National Semiconductor; PackageTopMarking: XVG*I H2; PowerWise: N; CompType: Audio IC; Published: 1-Mar-2010; DatasheetVersion: May-2006; PackageVersion: revA, 2008; PackageReference: TMD12AAA; Publisher: Altium Limited; PackageDescription: Thin Micro SMD, 12 Bump, 0.4mm Pitch; Supplier 1: Digi-Key; Supplier Part Number 1: LM4985TMX-ND; RoHS: Y; PinCount: 12; ComponentLink1Description: LM4985 Datasheet; ComponentLink1URL: http://www.national.com/ds/LM/LM4985.pdf; ComponentLink2Description: LM4985 Web Page; ComponentLink2URL: http://www.national.com/pf/LM/LM4985.html; ComponentLink3Description: TMD12AAA Package Page; ComponentLink3URL: http://www.national.com/packaging/folders/tmd12aaa.html
footprint TMD12AAA (Micro SMD, 12-Leads, Body 1.62x1.22mm, Pitch 0.4mm, NSC Recommended)
pins: A1 ADR (in), A2 IN2 (in), A3 OUT2 (out), B1 SDA (in), B2 BYPASS, B3 CNTGND (power), C1 SCL (in), C2 GND (power), C3 VDD (power), D1 I2CVDD (power), D2 IN1 (in), D3 OUT1 (out)

## LM4990ITL
designator U?
2W Audio Power Amplifier with Selectable Shutdown Logic Level, 9-pin Micro SMD; PartNumber: LM4990ITL; Manufacturer: National Semiconductor; PackageTopMarking: XVG*I D2; PowerWise: N; CompType: Audio IC; Published: 4-Dec-2008; DatasheetVersion: Oct-2004; PackageVersion: revC, Jan-2004; PackageReference: TLA09ZZA; Publisher: Altium Limited; PackageDescription: Thin Micro SMD, 9 Bump (Large), 0.5mm Pitch; RoHS: Y; PinCount: 9; Code_JEDEC: MO-211-DD; ComponentLink1Description: LM4990 Datasheet; ComponentLink1URL: http://www.national.com/ds/LM/LM4990.pdf; ComponentLink2Description: LM4990 Web Page; ComponentLink2URL: http://www.national.com/pf/LM/LM4990.html; ComponentLink3Description: TLA09ZZA Package Page; ComponentLink3URL: http://www.national.com/packaging/folders/tla09zza.html
footprint TLA09ZZA (Micro SMD, 9-Leads, Body 1.47x1.47mm, Pitch 0.5mm, NSC Recommended)
pins: A1 -IN (in), A2 VO1 (out), A3 +IN (in), B1 GND (power), B2 GND (power), B3 VDD (power), C1 BYPASS, C2 VO2 (out), C3 ~{SD} (in)

## LM4990LD
designator U?
2W Audio Power Amplifier with Selectable Shutdown Logic Level, 11-pin LLP; PartNumber: LM4990LD; Manufacturer: National Semiconductor; PackageTopMarking: ZXYTT*L4990; PowerWise: N; CompType: Audio IC; Published: 4-Dec-2008; DatasheetVersion: Oct-2004; PackageVersion: revB, Jun-2003; PackageReference: LDA10B; Publisher: Altium Limited; PackageDescription: LLP, Plastic, Dual, 3 x 4 x 0.75mm Body, 10 Lead, 0.5mm Pitch; RoHS: N; PinCount: 10; Code_JEDEC: MO-229-WEGD; ComponentLink1Description: LM4990 Datasheet; ComponentLink1URL: http://www.national.com/ds/LM/LM4990.pdf; ComponentLink2Description: LM4990 Web Page; ComponentLink2URL: http://www.national.com/pf/LM/LM4990.html; ComponentLink3Description: LDA10B Package Page; ComponentLink3URL: http://www.national.com/packaging/folders/lda10b.html
footprint LDA10B (PSON, 10-Leads, Body 3x4mm, Pitch 0.5mm, NSC Recommended)
pins: 1 SD (in), 2 BYPASS, 3 SD MODE (in), 4 +IN (in), 5 -IN (in), 6 VO 1 (out), 7 NC, 8 VDD (power), 9 GND (power), 10 VO 2 (out), 11 DAP (power)

## LM4990LD/NOPB
designator U?
2W Audio Power Amplifier with Selectable Shutdown Logic Level, 10-pin LLP, Pb-Free; PartNumber: LM4990LD/NOPB; Manufacturer: National Semiconductor; PackageTopMarking: ZXYTT*L4990; PowerWise: N; CompType: Audio IC; Published: 1-Mar-2010; DatasheetVersion: Oct-2004; PackageVersion: revB, Jun-2003; PackageReference: LDA10B; Publisher: Altium Limited; PackageDescription: LLP, Plastic, Dual, 3 x 4 x 0.75mm Body, 10 Lead, 0.5mm Pitch; Supplier 1: Digi-Key; Supplier Part Number 1: LM4990LDTR-ND; Supplier 2: Digi-Key; Supplier Part Number 2: LM4990LDCT-ND; Supplier 3: Digi-Key; Supplier Part Number 3: LM4990LDDKR-ND; RoHS: Y; PinCount: 10; Code_JEDEC: MO-229-WEGD; ComponentLink1Description: LM4990 Datasheet; ComponentLink1URL: http://www.national.com/ds/LM/LM4990.pdf; ComponentLink2Description: LM4990 Web Page; ComponentLink2URL: http://www.national.com/pf/LM/LM4990.html; ComponentLink3Description: LDA10B Package Page; ComponentLink3URL: http://www.national.com/packaging/folders/lda10b.html
footprint LDA10B (PSON, 10-Leads, Body 3x4mm, Pitch 0.5mm, NSC Recommended)
pins: 1 SD (in), 2 BYPASS, 3 SD MODE (in), 4 +IN (in), 5 -IN (in), 6 VO 1 (out), 7 NC, 8 VDD (power), 9 GND (power), 10 VO 2 (out), 11 DAP (power)

## LM4990LDX
designator U?
2W Audio Power Amplifier with Selectable Shutdown Logic Level, 10-pin LLP; PartNumber: LM4990LDX; Manufacturer: National Semiconductor; PackageTopMarking: ZXYTT*L4990; PowerWise: N; CompType: Audio IC; Published: 1-Mar-2010; DatasheetVersion: Oct-2004; PackageVersion: revB, Jun-2003; PackageReference: LDA10B; Publisher: Altium Limited; PackageDescription: LLP, Plastic, Dual, 3 x 4 x 0.75mm Body, 10 Lead, 0.5mm Pitch; RoHS: N; PinCount: 10; Code_JEDEC: MO-229-WEGD; ComponentLink1Description: LM4990 Datasheet; ComponentLink1URL: http://www.national.com/ds/LM/LM4990.pdf; ComponentLink2Description: LM4990 Web Page; ComponentLink2URL: http://www.national.com/pf/LM/LM4990.html; ComponentLink3Description: LDA10B Package Page; ComponentLink3URL: http://www.national.com/packaging/folders/lda10b.html
footprint LDA10B (PSON, 10-Leads, Body 3x4mm, Pitch 0.5mm, NSC Recommended)
pins: 1 SD (in), 2 BYPASS, 3 SD MODE (in), 4 +IN (in), 5 -IN (in), 6 VO 1 (out), 7 NC, 8 VDD (power), 9 GND (power), 10 VO 2 (out), 11 DAP (power)

## LM4990LDX/NOPB
designator U?
2W Audio Power Amplifier with Selectable Shutdown Logic Level, 10-pin LLP, Pb-Free; PartNumber: LM4990LDX/NOPB; Manufacturer: National Semiconductor; PackageTopMarking: ZXYTT*L4990; PowerWise: N; CompType: Audio IC; Published: 1-Mar-2010; DatasheetVersion: Oct-2004; PackageVersion: revB, Jun-2003; PackageReference: LDA10B; Publisher: Altium Limited; PackageDescription: LLP, Plastic, Dual, 3 x 4 x 0.75mm Body, 10 Lead, 0.5mm Pitch; Supplier 1: Digi-Key; Supplier Part Number 1: LM4990LDX-ND; RoHS: Y; PinCount: 10; Code_JEDEC: MO-229-WEGD; ComponentLink1Description: LM4990 Datasheet; ComponentLink1URL: http://www.national.com/ds/LM/LM4990.pdf; ComponentLink2Description: LM4990 Web Page; ComponentLink2URL: http://www.national.com/pf/LM/LM4990.html; ComponentLink3Description: LDA10B Package Page; ComponentLink3URL: http://www.national.com/packaging/folders/lda10b.html
footprint LDA10B (PSON, 10-Leads, Body 3x4mm, Pitch 0.5mm, NSC Recommended)
pins: 1 SD (in), 2 BYPASS, 3 SD MODE (in), 4 +IN (in), 5 -IN (in), 6 VO 1 (out), 7 NC, 8 VDD (power), 9 GND (power), 10 VO 2 (out), 11 DAP (power)

## LM4990MH
designator U?
2W Audio Power Amplifier with Selectable Shutdown Logic Level, 11-pin TSSOP-EP; PartNumber: LM4990MH; Manufacturer: National Semiconductor; PackageTopMarking: ZXTT*4990; PowerWise: N; CompType: Audio IC; Published: 4-Dec-2008; DatasheetVersion: Oct-2004; PackageVersion: revA, Feb-2002; PackageReference: MXF10A; Publisher: Altium Limited; PackageDescription: Molded TSSOP, Exposed Pad, 3 x 3 x .85mm Body, 10 Lead, 0.5mm Pitch; RoHS: N; PinCount: 10; Code_JEDEC: MO-187-BA; ComponentLink1Description: LM4990 Datasheet; ComponentLink1URL: http://www.national.com/ds/LM/LM4990.pdf; ComponentLink2Description: LM4990 Web Page; ComponentLink2URL: http://www.national.com/pf/LM/LM4990.html; ComponentLink3Description: MXF10A Package Page; ComponentLink3URL: http://www.national.com/packaging/folders/mxf10a.html
footprint MXF10A_N (TSSOP, 10-Leads, Body 3x3mm, Pitch 0.5mm, Exposed Pad, IPC Medium Density)
footprint MXF10A_L (TSSOP, 10-Leads, Body 3x3mm, Pitch 0.5mm, Exposed Pad, IPC High Density)
footprint MXF10A_M (TSSOP, 10-Leads, Body 3x3mm, Pitch 0.5mm, Exposed Pad, IPC Low Density)
pins: 1 SD (in), 2 BYPASS, 3 SD MODE (in), 4 +IN (in), 5 -IN (in), 6 VO 1 (out), 7 NC, 8 VDD (power), 9 GND (power), 10 VO 2 (out), 11 DAP (power)

## LM4990MM
designator U?
2W Audio Power Amplifier with Selectable Shutdown Logic Level, 8-pin Mini SOIC; PartNumber: LM4990MM; Manufacturer: National Semiconductor; PackageTopMarking: ZXTT*GA5; PowerWise: N; CompType: Audio IC; Published: 4-Dec-2008; DatasheetVersion: Oct-2004; PackageVersion: revF, Apr-2008; PackageReference: MUA08A; Publisher: Altium Limited; PackageDescription: MINI SOIC, .118 x .118 x .034in, 8 Lead, .0256in Pitch; RoHS: N; PinCount: 8; Code_JEDEC: MO-187-AA; ComponentLink1Description: LM4990 Datasheet; ComponentLink1URL: http://www.national.com/ds/LM/LM4990.pdf; ComponentLink2Description: LM4990 Web Page; ComponentLink2URL: http://www.national.com/pf/LM/LM4990.html; ComponentLink3Description: MUA08A Package Page; ComponentLink3URL: http://www.national.com/packaging/folders/mua08a.html
footprint MUA08A_N (TSOP, 8-Leads, Body 3x3mm, Pitch 0.65mm, IPC Medium Density)
footprint MUA08A_L (TSOP, 8-Leads, Body 3x3mm, Pitch 0.65mm, IPC High Density)
footprint MUA08A_M (TSOP, 8-Leads, Body 3x3mm, Pitch 0.65mm, IPC Low Density)
pins: 1 ~{SD} (in), 2 BYPASS, 3 +IN (in), 4 -IN (in), 5 VO1 (out), 6 VDD (power), 7 GND (power), 8 VO2 (out)

## LM4990MM/NOPB
designator U?
2W Audio Power Amplifier with Selectable Shutdown Logic Level, 8-pin Mini SOIC, Pb-Free; PartNumber: LM4990MM/NOPB; Manufacturer: National Semiconductor; PackageTopMarking: ZXTT*GA5; PowerWise: N; CompType: Audio IC; Published: 1-Mar-2010; DatasheetVersion: Oct-2004; PackageVersion: revF, Apr-2008; PackageReference: MUA08A; Publisher: Altium Limited; PackageDescription: MINI SOIC, .118 x .118 x .034in, 8 Lead, .0256in Pitch; Supplier 1: Digi-Key; Supplier Part Number 1: LM4990MMTR-ND; Supplier 2: Digi-Key; Supplier Part Number 2: LM4990MMCT-ND; Supplier 3: Digi-Key; Supplier Part Number 3: LM4990MMDKR-ND; Supplier 4: Farnell; Supplier Part Number 4: 1694545; RoHS: Y; PinCount: 8; Code_JEDEC: MO-187-AA; ComponentLink1Description: LM4990 Datasheet; ComponentLink1URL: http://www.national.com/ds/LM/LM4990.pdf; ComponentLink2Description: LM4990 Web Page; ComponentLink2URL: http://www.national.com/pf/LM/LM4990.html; ComponentLink3Description: MUA08A Package Page; ComponentLink3URL: http://www.national.com/packaging/folders/mua08a.html
footprint MUA08A_N (TSOP, 8-Leads, Body 3x3mm, Pitch 0.65mm, IPC Medium Density)
footprint MUA08A_L (TSOP, 8-Leads, Body 3x3mm, Pitch 0.65mm, IPC High Density)
footprint MUA08A_M (TSOP, 8-Leads, Body 3x3mm, Pitch 0.65mm, IPC Low Density)
pins: 1 ~{SD} (in), 2 BYPASS, 3 +IN (in), 4 -IN (in), 5 VO1 (out), 6 VDD (power), 7 GND (power), 8 VO2 (out)

## LM4990MMX
designator U?
2W Audio Power Amplifier with Selectable Shutdown Logic Level, 8-pin Mini SOIC; PartNumber: LM4990MMX; Manufacturer: National Semiconductor; PackageTopMarking: ZXTT*GA5; PowerWise: N; CompType: Audio IC; Published: 1-Mar-2010; DatasheetVersion: Oct-2004; PackageVersion: revF, Apr-2008; PackageReference: MUA08A; Publisher: Altium Limited; PackageDescription: MINI SOIC, .118 x .118 x .034in, 8 Lead, .0256in Pitch; RoHS: N; PinCount: 8; Code_JEDEC: MO-187-AA; ComponentLink1Description: LM4990 Datasheet; ComponentLink1URL: http://www.national.com/ds/LM/LM4990.pdf; ComponentLink2Description: LM4990 Web Page; ComponentLink2URL: http://www.national.com/pf/LM/LM4990.html; ComponentLink3Description: MUA08A Package Page; ComponentLink3URL: http://www.national.com/packaging/folders/mua08a.html
footprint MUA08A_N (TSOP, 8-Leads, Body 3x3mm, Pitch 0.65mm, IPC Medium Density)
footprint MUA08A_L (TSOP, 8-Leads, Body 3x3mm, Pitch 0.65mm, IPC High Density)
footprint MUA08A_M (TSOP, 8-Leads, Body 3x3mm, Pitch 0.65mm, IPC Low Density)
pins: 1 ~{SD} (in), 2 BYPASS, 3 +IN (in), 4 -IN (in), 5 VO1 (out), 6 VDD (power), 7 GND (power), 8 VO2 (out)

## LM4991LD
designator U?
3W Audio Power Amplifier with Shutdown Mode, 9-pin LLP; PartNumber: LM4991LD; Manufacturer: National Semiconductor; PackageTopMarking: NS*UZXYTT*L4991; PowerWise: N; CompType: Audio IC; Published: 4-Dec-2008; DatasheetVersion: May-2003; PackageVersion: revB, Jun-2003; PackageReference: LDC08A; Publisher: Altium Limited; PackageDescription: LLP, Plastic, Dual, 4 x 4 x 0.75mm Body, 8 Lead, 0.8mm Pitch; RoHS: N; PinCount: 8; ComponentLink1Description: LM4991 Datasheet; ComponentLink1URL: http://www.national.com/ds/LM/LM4991.pdf; ComponentLink2Description: LM4991 Web Page; ComponentLink2URL: http://www.national.com/pf/LM/LM4991.html; ComponentLink3Description: LDC08A Package Page; ComponentLink3URL: http://www.national.com/packaging/folders/ldc08a.html
footprint LDC08A (PSON, 8-Leads, Body 4x4mm, Pitch 0.8mm, NSC Recommended)
pins: 1 SD (in), 2 BYPASS, 3 +IN (in), 4 -IN (in), 5 VO1 (out), 6 VDD (power), 7 GND (power), 8 VO2 (out), 9 DAP (power)

## LM4991LD/NOPB
designator U?
3W Audio Power Amplifier with Shutdown Mode, 8-pin LLP, Pb-Free; PartNumber: LM4991LD/NOPB; Manufacturer: National Semiconductor; PackageTopMarking: NS*UZXYTT*L4991; PowerWise: N; CompType: Audio IC; Published: 1-Mar-2010; DatasheetVersion: May-2003; PackageVersion: revB, Jun-2003; PackageReference: LDC08A; Publisher: Altium Limited; PackageDescription: LLP, Plastic, Dual, 4 x 4 x 0.75mm Body, 8 Lead, 0.8mm Pitch; Supplier 1: Digi-Key; Supplier Part Number 1: LM4991LD-ND; RoHS: Y; PinCount: 8; ComponentLink1Description: LM4991 Datasheet; ComponentLink1URL: http://www.national.com/ds/LM/LM4991.pdf; ComponentLink2Description: LM4991 Web Page; ComponentLink2URL: http://www.national.com/pf/LM/LM4991.html; ComponentLink3Description: LDC08A Package Page; ComponentLink3URL: http://www.national.com/packaging/folders/ldc08a.html
footprint LDC08A (PSON, 8-Leads, Body 4x4mm, Pitch 0.8mm, NSC Recommended)
pins: 1 SD (in), 2 BYPASS, 3 +IN (in), 4 -IN (in), 5 VO1 (out), 6 VDD (power), 7 GND (power), 8 VO2 (out), 9 DAP (power)

## LM4991LDX
designator U?
3W Audio Power Amplifier with Shutdown Mode, 8-pin LLP; PartNumber: LM4991LDX; Manufacturer: National Semiconductor; PackageTopMarking: NS*UZXYTT*L4991; PowerWise: N; CompType: Audio IC; Published: 1-Mar-2010; DatasheetVersion: May-2003; PackageVersion: revB, Jun-2003; PackageReference: LDC08A; Publisher: Altium Limited; PackageDescription: LLP, Plastic, Dual, 4 x 4 x 0.75mm Body, 8 Lead, 0.8mm Pitch; RoHS: N; PinCount: 8; ComponentLink1Description: LM4991 Datasheet; ComponentLink1URL: http://www.national.com/ds/LM/LM4991.pdf; ComponentLink2Description: LM4991 Web Page; ComponentLink2URL: http://www.national.com/pf/LM/LM4991.html; ComponentLink3Description: LDC08A Package Page; ComponentLink3URL: http://www.national.com/packaging/folders/ldc08a.html
footprint LDC08A (PSON, 8-Leads, Body 4x4mm, Pitch 0.8mm, NSC Recommended)
pins: 1 SD (in), 2 BYPASS, 3 +IN (in), 4 -IN (in), 5 VO1 (out), 6 VDD (power), 7 GND (power), 8 VO2 (out), 9 DAP (power)

## LM4991MA
designator U?
3W Audio Power Amplifier with Shutdown Mode, 8-pin Narrow SOIC; PartNumber: LM4991MA; Manufacturer: National Semiconductor; PackageTopMarking: NSZXTT*LM49*91MA; PowerWise: N; CompType: Audio IC; Published: 4-Dec-2008; DatasheetVersion: May-2003; PackageVersion: revM, May-2009; PackageReference: M08A; Publisher: Altium Limited; PackageDescription: SOIC Narrow, 4.9 x 3.9 x 1.45mm, 8 Lead, 1.27mm Pitch; RoHS: N; PinCount: 8; Code_JEDEC: MS-012-AA; Code_IPC: SOIC127P600-8; ComponentLink1Description: LM4991 Datasheet; ComponentLink1URL: http://www.national.com/ds/LM/LM4991.pdf; ComponentLink2Description: LM4991 Web Page; ComponentLink2URL: http://www.national.com/pf/LM/LM4991.html; ComponentLink3Description: M08A Package Page; ComponentLink3URL: http://www.national.com/packaging/folders/m08a.html
footprint M08A_N (SOIC, 8-Leads, Body 4.9x3.9mm, Pitch 1.27mm, IPC Medium Density)
footprint M08A_L (SOIC, 8-Leads, Body 4.9x3.9mm, Pitch 1.27mm, IPC High Density)
footprint M08A_M (SOIC, 8-Leads, Body 4.9x3.9mm, Pitch 1.27mm, IPC Low Density)
pins: 1 SD (in), 2 BYPASS, 3 +IN (in), 4 -IN (in), 5 VO1 (out), 6 VDD (power), 7 GND (power), 8 VO2 (out)

## LM4991MA/NOPB
designator U?
3W Audio Power Amplifier with Shutdown Mode, 8-pin Narrow SOIC, Pb-Free; PartNumber: LM4991MA/NOPB; Manufacturer: National Semiconductor; PackageTopMarking: NSZXTT*LM49*91MA; PowerWise: N; CompType: Audio IC; Published: 1-Mar-2010; DatasheetVersion: May-2003; PackageVersion: revM, May-2009; PackageReference: M08A; Publisher: Altium Limited; PackageDescription: SOIC Narrow, 4.9 x 3.9 x 1.45mm, 8 Lead, 1.27mm Pitch; Supplier 1: Digi-Key; Supplier Part Number 1: LM4991MA-ND; RoHS: Y; PinCount: 8; Code_JEDEC: MS-012-AA; Code_IPC: SOIC127P600-8; ComponentLink1Description: LM4991 Datasheet; ComponentLink1URL: http://www.national.com/ds/LM/LM4991.pdf; ComponentLink2Description: LM4991 Web Page; ComponentLink2URL: http://www.national.com/pf/LM/LM4991.html; ComponentLink3Description: M08A Package Page; ComponentLink3URL: http://www.national.com/packaging/folders/m08a.html
footprint M08A_N (SOIC, 8-Leads, Body 4.9x3.9mm, Pitch 1.27mm, IPC Medium Density)
footprint M08A_L (SOIC, 8-Leads, Body 4.9x3.9mm, Pitch 1.27mm, IPC High Density)
footprint M08A_M (SOIC, 8-Leads, Body 4.9x3.9mm, Pitch 1.27mm, IPC Low Density)
pins: 1 SD (in), 2 BYPASS, 3 +IN (in), 4 -IN (in), 5 VO1 (out), 6 VDD (power), 7 GND (power), 8 VO2 (out)

## LM4991MAX
designator U?
3W Audio Power Amplifier with Shutdown Mode, 8-pin Narrow SOIC; PartNumber: LM4991MAX; Manufacturer: National Semiconductor; PackageTopMarking: NSZXTT*LM49*91MA; PowerWise: N; CompType: Audio IC; Published: 1-Mar-2010; DatasheetVersion: May-2003; PackageVersion: revM, May-2009; PackageReference: M08A; Publisher: Altium Limited; PackageDescription: SOIC Narrow, 4.9 x 3.9 x 1.45mm, 8 Lead, 1.27mm Pitch; RoHS: N; PinCount: 8; Code_JEDEC: MS-012-AA; Code_IPC: SOIC127P600-8; ComponentLink1Description: LM4991 Datasheet; ComponentLink1URL: http://www.national.com/ds/LM/LM4991.pdf; ComponentLink2Description: LM4991 Web Page; ComponentLink2URL: http://www.national.com/pf/LM/LM4991.html; ComponentLink3Description: M08A Package Page; ComponentLink3URL: http://www.national.com/packaging/folders/m08a.html
footprint M08A_N (SOIC, 8-Leads, Body 4.9x3.9mm, Pitch 1.27mm, IPC Medium Density)
footprint M08A_L (SOIC, 8-Leads, Body 4.9x3.9mm, Pitch 1.27mm, IPC High Density)
footprint M08A_M (SOIC, 8-Leads, Body 4.9x3.9mm, Pitch 1.27mm, IPC Low Density)
pins: 1 SD (in), 2 BYPASS, 3 +IN (in), 4 -IN (in), 5 VO1 (out), 6 VDD (power), 7 GND (power), 8 VO2 (out)

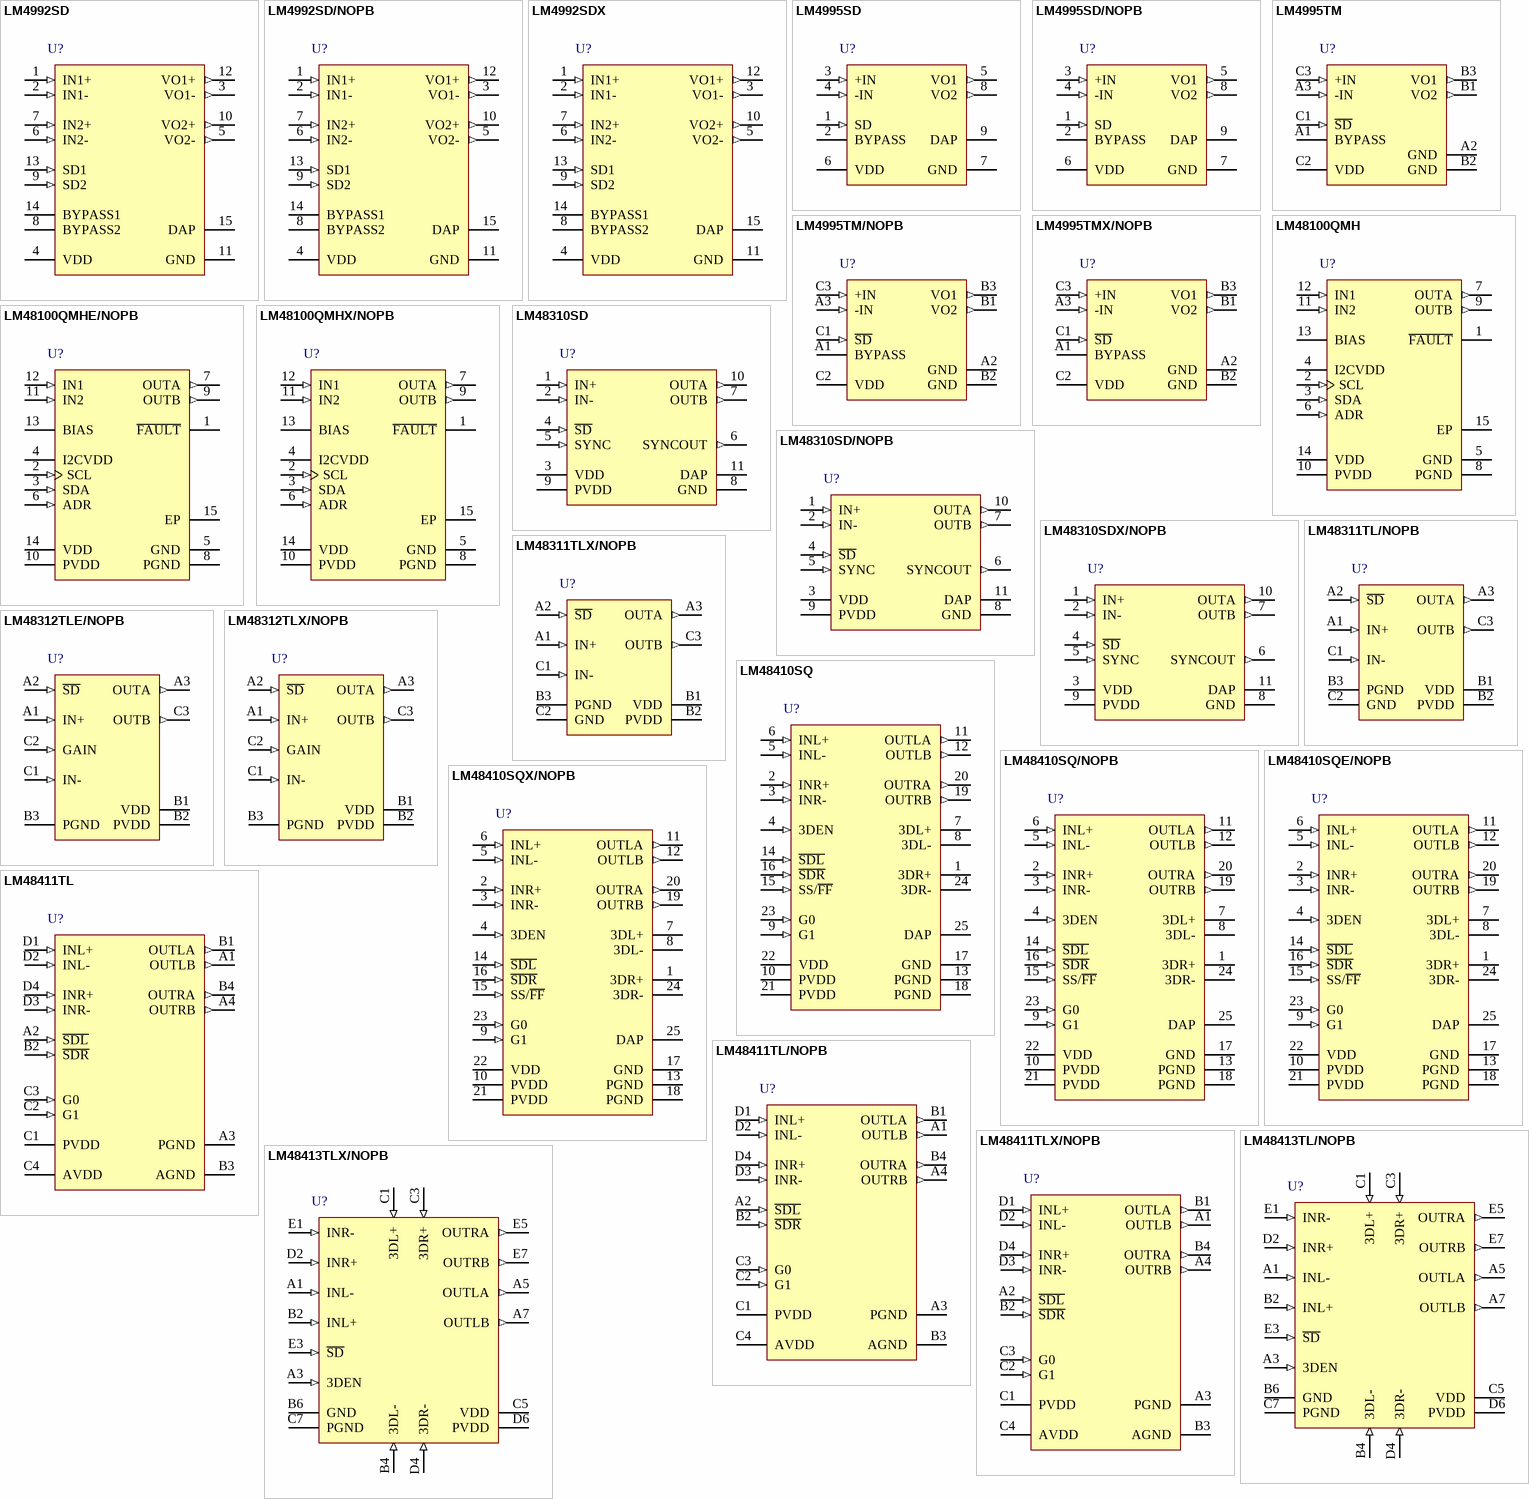
[diagram p18: symbols LM4992SD to LM48413TLX/NOPB]